# Altium schematic symbol library WE-OLTI.SchLib: 30 symbols
Pins are listed as number, name and electrical type; pins without a type are passive.

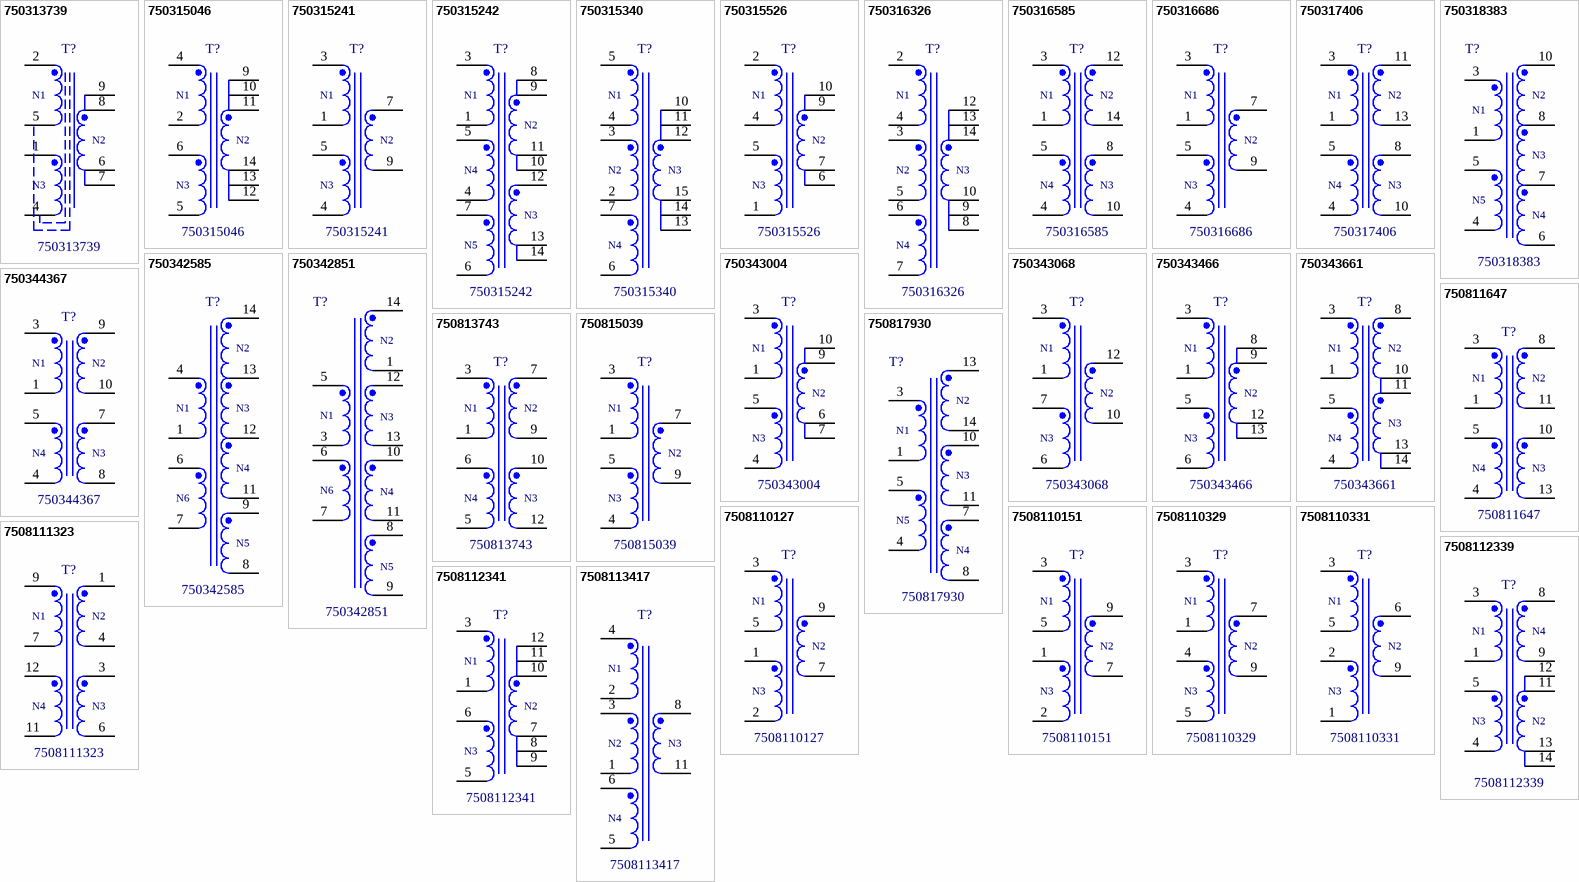
[diagram p0: symbols 750313739 to 7508113417]

## 750313739
designator T?
WE-OLTI Offline Flyback Transformer, EE16/8/5, Ui = 85~265V (AC), Uo = 5V / 1.2A, 1100μH; Manufacturer: Wurth Elektronik; Insulation Test Voltage: 4500V (AC); Switching Frequency: 115kHz; Turns Ratio: 16.5:1:3.5; Manufacturer Part Number: 750313739; Category: Transformers For AC-DC Converter; Match Code: WE-OLTI; ComponentLink1Description: Website Link; ComponentLink1URL: https://www.we-online.com/redexpert/article/750313739?ad; ComponentLink2Description: Datasheet Link; ComponentLink2URL: https://www.we-online.com/redexpert/spec/750313739?ad; Mount: Through Hole; Min Operating Temperature: -40°C; Max Operating Temperature: 125°C; Case/Size Code: EE16/8/5; Length: 24.38mm; Width: 20.32mm; Height: 16mm; Inductance: 1100μH; Input Voltage: 85~265V (AC); Output Current 1: 1.2A; Output Voltage 1: 5V
footprint EE16/8/5_750313739
pins: 1, 2, 4, 5, 6, 7, 8, 9
text: N1; N2; N3

## 750315046
designator T?
WE-OLTI Offline Flyback Transformer, EE25/13/7, Ui = 141~403V (AC), Uo = 24V / 2.1A, 1000μH; Manufacturer: Wurth Elektronik; Insulation Test Voltage: 3000V (AC); Switching Frequency: 60kHz; Turns Ratio: 8.67:1:1; Manufacturer Part Number: 750315046; Category: Transformers For AC-DC Converter; Match Code: WE-OLTI; ComponentLink1Description: Website Link; ComponentLink1URL: https://www.we-online.com/redexpert/article/750315046?ad; ComponentLink2Description: Datasheet Link; ComponentLink2URL: https://www.we-online.com/redexpert/spec/750315046?ad; Mount: Through Hole; Min Operating Temperature: -40°C; Max Operating Temperature: 125°C; Case/Size Code: EE25/13/7; Length: 32.25mm; Width: 27.05mm; Height: 22.86mm; Inductance: 1000μH; Input Voltage: 141~403V (AC); Output Current 1: 2.1A; Output Voltage 1: 24V
footprint EE25/13/7_750315046
pins: 2, 4, 5, 6, 9, 10, 11, 12, 13, 14
text: N1; N2; N3

## 750315241
designator T?
WE-OLTI Offline Flyback Transformer, EE20/10/6, Ui = 142~284V (AC), Uo = 36V / 1A, 1100μH; Manufacturer: Wurth Elektronik; Insulation Test Voltage: 3000V (AC); Switching Frequency: 45kHz; Turns Ratio: 4:1:0.5; Manufacturer Part Number: 750315241; Category: Transformers For AC-DC Converter; Match Code: WE-OLTI; ComponentLink1Description: Website Link; ComponentLink1URL: https://www.we-online.com/redexpert/article/750315241?ad; ComponentLink2Description: Datasheet Link; ComponentLink2URL: https://www.we-online.com/redexpert/spec/750315241?ad; Mount: Through Hole; Min Operating Temperature: -40°C; Max Operating Temperature: 125°C; Case/Size Code: EE20/10/6; Length: 25mm; Width: 22.2mm; Height: 16mm; Inductance: 1100μH; Input Voltage: 142~284V (AC); Output Current 1: 1A; Output Voltage 1: 36V
footprint EE20/10/6_750315241
pins: 1, 3, 4, 5, 7, 9
text: N1; N2; N3

## 750315242
designator T?
WE-OLTI Offline Flyback Transformer, EE25/13/7, Ui = 141~283V (AC), Uo1 = 12V / 1.8A, Uo2 = 12V / 1.8A, 600μH; Manufacturer: Wurth Elektronik; Insulation Test Voltage: 3000V (AC); Switching Frequency: 45kHz; Turns Ratio: 12:1:1:1.67:1.33; Manufacturer Part Number: 750315242; Category: Transformers For AC-DC Converter; Match Code: WE-OLTI; ComponentLink1Description: Website Link; ComponentLink1URL: https://www.we-online.com/redexpert/article/750315242?ad; ComponentLink2Description: Datasheet Link; ComponentLink2URL: https://www.we-online.com/redexpert/spec/750315242?ad; Mount: Through Hole; Min Operating Temperature: -40°C; Max Operating Temperature: 125°C; Case/Size Code: EE25/13/7; Length: 32.25mm; Width: 27.05mm; Height: 22.86mm; Inductance: 600μH; Input Voltage: 141~283V (AC); Output Current 1: 1.8A; Output Current 2: 1.8A; Output Voltage 1: 12V; Output Voltage 2: 12V
footprint EE25/13/7_750315242
pins: 1, 3, 4, 5, 6, 7, 8, 9, 10, 11, 12, 13, 14
text: N1; N2; N4; N3; N5

## 750315340
designator T?
WE-OLTI Offline Flyback Transformer, ETD39, Ui = 200~265V (AC), Uo = 24V / 10A, 200μH; Manufacturer: Wurth Elektronik; Insulation Test Voltage: 3000V (AC); Switching Frequency: 60kHz; Turns Ratio: 4.5:1:0.5; Manufacturer Part Number: 750315340; Category: Transformers For AC-DC Converter; Match Code: WE-OLTI; ComponentLink1Description: Website Link; ComponentLink1URL: https://www.we-online.com/redexpert/article/750315340?ad; ComponentLink2Description: Datasheet Link; ComponentLink2URL: https://www.we-online.com/redexpert/spec/750315340?ad; Mount: Through Hole; Min Operating Temperature: -40°C; Max Operating Temperature: 125°C; Case/Size Code: ETD39; Length: 49mm; Width: 41.9mm; Height: 31.75mm; Inductance: 200μH; Input Voltage: 200~265V (AC); Output Current 1: 10A; Output Voltage 1: 24V
footprint ETD39_750315340
pins: 2, 3, 4, 5, 6, 7, 10, 11, 12, 13, 14, 15
text: N1; N2; N3; N4

## 750315526
designator T?
WE-OLTI Offline Flyback Transformer, EE16/7/5, Ui = 85~265V (AC), Uo = 5V / 2A, 435μH; Manufacturer: Wurth Elektronik; Insulation Test Voltage: 3900V (AC); Switching Frequency: 100kHz; Turns Ratio: 13.2:1:3.8; Manufacturer Part Number: 750315526; Category: Transformers For AC-DC Converter; Match Code: WE-OLTI; ComponentLink1Description: Website Link; ComponentLink1URL: https://www.we-online.com/redexpert/article/750315526?ad; ComponentLink2Description: Datasheet Link; ComponentLink2URL: https://www.we-online.com/redexpert/spec/750315526?ad; Mount: Through Hole; Min Operating Temperature: -40°C; Max Operating Temperature: 125°C; Case/Size Code: EE16/7/5; Length: 18.8mm; Width: 17.5mm; Height: 13.8mm; Inductance: 435μH; Input Voltage: 85~265V (AC); Output Current 1: 2A; Output Voltage 1: 5V
footprint EE16/7/5_750315526
pins: 1, 2, 4, 5, 6, 7, 9, 10
text: N1; N2; N3

## 750316326
designator T?
WE-OLTI Offline Flyback Transformer, ERL35, Ui = 85~265V (AC), Uo = 27V / 6A, 250μH; Manufacturer: Wurth Elektronik; Insulation Test Voltage: 3600V (AC); Switching Frequency: 120kHz; Turns Ratio: 4:1:0.5; Manufacturer Part Number: 750316326; Category: Transformers For AC-DC Converter; Match Code: WE-OLTI; ComponentLink1Description: Website Link; ComponentLink1URL: https://www.we-online.com/redexpert/article/750316326?ad; ComponentLink2Description: Datasheet Link; ComponentLink2URL: https://www.we-online.com/redexpert/spec/750316326?ad; Mount: Through Hole; Min Operating Temperature: -40°C; Max Operating Temperature: 125°C; Case/Size Code: ERL35; Length: 44mm; Width: 36.5mm; Height: 28.5mm; Inductance: 250μH; Input Voltage: 85~265V (AC); Output Current 1: 6A; Output Voltage 1: 27V
footprint ERL35_750316326
pins: 2, 3, 4, 5, 6, 7, 8, 9, 10, 12, 13, 14
text: N1; N2; N3; N4

## 750316585
designator T?
WE-OLTI Offline Flyback Transformer, EE20/10/6, Ui = 177~473V (AC), Uo1 = 12V / 1.5A, Uo2 = 5V / 2A, 600μH; Manufacturer: Wurth Elektronik; Insulation Test Voltage: 4000V (AC); Switching Frequency: 30kHz; Turns Ratio: 5.81:3:2.18:1:5.81; Manufacturer Part Number: 750316585; Category: Transformers For AC-DC Converter; Match Code: WE-OLTI; ComponentLink1Description: Website Link; ComponentLink1URL: https://www.we-online.com/redexpert/article/750316585?ad; ComponentLink2Description: Datasheet Link; ComponentLink2URL: https://www.we-online.com/redexpert/spec/750316585?ad; Mount: Through Hole; Min Operating Temperature: -40°C; Max Operating Temperature: 125°C; Case/Size Code: EE20/10/6; Length: 25mm; Width: 22.2mm; Height: 16mm; Inductance: 600μH; Input Voltage: 177~473V (AC); Output Current 1: 1.5A; Output Current 2: 2A; Output Voltage 1: 12V; Output Voltage 2: 5V
footprint EE20/10/6_750316585
pins: 1, 3, 4, 5, 8, 10, 12, 14
text: N1; N2; N4; N3

## 750316686
designator T?
WE-OLTI Offline Flyback Transformer, EE16/8/5, Ui = 85~265V (AC), Uo = 12V / 1A, 500μH; Manufacturer: Wurth Elektronik; Insulation Test Voltage: 3000V (AC); Switching Frequency: 70kHz; Turns Ratio: 6:1:1; Manufacturer Part Number: 750316686; Category: Transformers For AC-DC Converter; Match Code: WE-OLTI; ComponentLink1Description: Website Link; ComponentLink1URL: https://www.we-online.com/redexpert/article/750316686?ad; ComponentLink2Description: Datasheet Link; ComponentLink2URL: https://www.we-online.com/redexpert/spec/750316686?ad; Mount: Through Hole; Min Operating Temperature: -40°C; Max Operating Temperature: 125°C; Case/Size Code: EE16/8/5; Length: 24.38mm; Width: 20.32mm; Height: 16mm; Inductance: 500μH; Input Voltage: 85~265V (AC); Output Current 1: 1A; Output Voltage 1: 12V
footprint EE16/8/5_750316686
pins: 1, 3, 4, 5, 7, 9
text: N1; N2; N3

## 750317406
designator T?
WE-OLTI Offline Flyback Transformer, EE20/10/6, Ui = 85~400V (AC), Uo1 = 12V / 1.1A, Uo2 = 4V / 0.01A, 600μH; Manufacturer: Wurth Elektronik; Insulation Test Voltage: 4800V (AC); Switching Frequency: 100kHz; Turns Ratio: 21:3:1:6; Manufacturer Part Number: 750317406; Category: Transformers For AC-DC Converter; Match Code: WE-OLTI; ComponentLink1Description: Website Link; ComponentLink1URL: https://www.we-online.com/redexpert/article/750317406?ad; ComponentLink2Description: Datasheet Link; ComponentLink2URL: https://www.we-online.com/redexpert/spec/750317406?ad; Mount: Through Hole; Min Operating Temperature: -40°C; Max Operating Temperature: 125°C; Case/Size Code: EE20/10/6; Length: 25mm; Width: 21.5mm; Height: 16mm; Inductance: 600μH; Input Voltage: 85~400V (AC); Output Current 1: 1.1A; Output Current 2: 0.01A; Output Voltage 1: 12V; Output Voltage 2: 4V
footprint EE20/10/6_750317406
pins: 1, 3, 4, 5, 8, 10, 11, 13
text: N1; N2; N4; N3

## 750318383
designator T?
WE-OLTI Offline Flyback Transformer, EFD20, Ui = 85~265V (AC), Uo1 = 12V / 0.3A, Uo2 = 7V / 2A, Uo3 = -15V / 0.3A, 680μH; Manufacturer: Wurth Elektronik; Insulation Test Voltage: 3750V (AC); Switching Frequency: 66kHz; Turns Ratio: 29.33:1:1.67:3:3; Manufacturer Part Number: 750318383; Category: Transformers For AC-DC Converter; Match Code: WE-OLTI; ComponentLink1Description: Website Link; ComponentLink1URL: https://www.we-online.com/redexpert/article/750318383?ad; ComponentLink2Description: Datasheet Link; ComponentLink2URL: https://www.we-online.com/redexpert/spec/750318383?ad; Mount: Through Hole; Min Operating Temperature: -40°C; Max Operating Temperature: 125°C; Case/Size Code: EFD20; Length: 29mm; Width: 21.5mm; Height: 12.45mm; Inductance: 680μH; Input Voltage: 85~265V (AC); Output Current 1: 0.3A; Output Current 2: 2A; Output Current 3: 0.3A; Output Voltage 1: 12V; Output Voltage 2: 7V; Output Voltage 3: -15V
footprint EFD20_750318383
pins: 1, 3, 4, 5, 6, 7, 8, 10
text: N2; N1; N3; N5; N4

## 750342585
designator T?
WE-OLTI Offline Flyback Transformer, ETD29, Ui = 400~690V (AC), Uo1 = 24V / 2A, Uo2 = 16V / 0.14A, Uo3 = 16V / 0.14A, 2500μH; Manufacturer: Wurth Elektronik; Insulation Test Voltage: 3800V (AC); Switching Frequency: 68kHz; Turns Ratio: 35.5:1:2:2:0.75:2; Manufacturer Part Number: 750342585; Category: Transformers For AC-DC Converter; Match Code: WE-OLTI; ComponentLink1Description: Website Link; ComponentLink1URL: https://www.we-online.com/redexpert/article/750342585?ad; ComponentLink2Description: Datasheet Link; ComponentLink2URL: https://www.we-online.com/redexpert/spec/750342585?ad; Mount: Through Hole; Min Operating Temperature: -40°C; Max Operating Temperature: 125°C; Case/Size Code: ETD29; Length: 35.56mm; Width: 24.38mm; Height: 44.2mm; Inductance: 2500μH; Input Voltage: 400~690V (AC); Output Current 1: 2A; Output Current 2: 0.14A; Output Current 3: 0.14A; Output Voltage 1: 24V; Output Voltage 2: 16V; Output Voltage 3: 16V
footprint ETD29_750342585
pins: 1, 4, 6, 7, 8, 9, 11, 12, 13, 14
text: N2; N1; N3; N4; N6; N5

## 750342851
designator T?
WE-OLTI Offline Flyback Transformer, EE25/13/7, Ui = 43~318V (AC), Uo1 = 24V / 1A, Uo2 = 15V / 0.065A, Uo3 = 15V / 0.065A, 150μH; Manufacturer: Wurth Elektronik; Insulation Test Voltage: 1250V (AC); Switching Frequency: 75kHz; Turns Ratio: 3.75:1.5:1:1:1:1; Manufacturer Part Number: 750342851; Category: Transformers For AC-DC Converter; Match Code: WE-OLTI; ComponentLink1Description: Website Link; ComponentLink1URL: https://www.we-online.com/redexpert/article/750342851?ad; ComponentLink2Description: Datasheet Link; ComponentLink2URL: https://www.we-online.com/redexpert/spec/750342851?ad; Mount: Through Hole; Min Operating Temperature: -40°C; Max Operating Temperature: 125°C; Case/Size Code: EE25/13/7; Length: 32.25mm; Width: 27.05mm; Height: 22.86mm; Inductance: 150μH; Input Voltage: 43~318V (AC); Output Current 1: 1A; Output Current 2: 0.065A; Output Current 3: 0.065A; Output Voltage 1: 24V; Output Voltage 2: 15V; Output Voltage 3: 15V
footprint EE25/13/7_750342851
pins: 1, 3, 5, 6, 7, 8, 9, 10, 11, 12, 13, 14
text: N2; N1; N3; N6; N4; N5

## 750343004
designator T?
WE-OLTI Offline Flyback Transformer, ER28/14, Ui = 106~286V (AC), Uo = 24V / 3.85A, 160μH; Manufacturer: Wurth Elektronik; Insulation Test Voltage: 3750V (AC); Switching Frequency: 65kHz; Turns Ratio: 4:1:0.78; Manufacturer Part Number: 750343004; Category: Transformers For AC-DC Converter; Match Code: WE-OLTI; ComponentLink1Description: Website Link; ComponentLink1URL: https://www.we-online.com/redexpert/article/750343004?ad; ComponentLink2Description: Datasheet Link; ComponentLink2URL: https://www.we-online.com/redexpert/spec/750343004?ad; Mount: Through Hole; Min Operating Temperature: -40°C; Max Operating Temperature: 125°C; Case/Size Code: ER28/14; Length: 30.5mm; Width: 24mm; Height: 33mm; Inductance: 160μH; Input Voltage: 106~286V (AC); Output Current 1: 3.85A; Output Voltage 1: 24V
footprint ER28/14_750343004
pins: 1, 3, 4, 5, 6, 7, 9, 10
text: N1; N2; N3

## 750343068
designator T?
WE-OLTI Offline Flyback Transformer, PQ2625, Ui = 60~283V (AC), Uo = 24V / 2.5A, 230μH; Manufacturer: Wurth Elektronik; Insulation Test Voltage: 3000V (AC); Switching Frequency: 65kHz; Turns Ratio: 3.88:1:0.83; Manufacturer Part Number: 750343068; Category: Transformers For AC-DC Converter; Match Code: WE-OLTI; ComponentLink1Description: Website Link; ComponentLink1URL: https://www.we-online.com/redexpert/article/750343068?ad; ComponentLink2Description: Datasheet Link; ComponentLink2URL: https://www.we-online.com/redexpert/spec/750343068?ad; Mount: Through Hole; Min Operating Temperature: -40°C; Max Operating Temperature: 125°C; Case/Size Code: PQ2625; Length: 30.35mm; Width: 29.2mm; Height: 29.3mm; Inductance: 230μH; Input Voltage: 60~283V (AC); Output Current 1: 2.5A; Output Voltage 1: 24V
footprint PQ2625_750343068
pins: 1, 3, 6, 7, 10, 12
text: N1; N2; N3

## 750343466
designator T?
WE-OLTI Offline Flyback Transformer, EE20/10/6, Ui = 60~282V (AC), Uo = 24V / 1.5A, 280μH; Manufacturer: Wurth Elektronik; Insulation Test Voltage: 3000V (AC); Switching Frequency: 100kHz; Turns Ratio: 4.29 : 1 : 0.72; Manufacturer Part Number: 750343466; Category: Transformers For AC-DC Converter; Match Code: WE-OLTI; ComponentLink1Description: Website Link; ComponentLink1URL: https://www.we-online.com/redexpert/article/750343466?ad; ComponentLink2Description: Datasheet Link; ComponentLink2URL: https://www.we-online.com/redexpert/spec/750343466?ad; Mount: Through Hole; Min Operating Temperature: -40°C; Max Operating Temperature: 125°C; Case/Size Code: EE20/10/6; Length: 25mm; Width: 22.2mm; Height: 16.5mm; Inductance: 280μH; Input Voltage: 60~282V (AC); Output Current 1: 1.5A; Output Voltage 1: 24V
footprint EE20/10/6_750343466
pins: 1, 3, 5, 6, 8, 9, 12, 13
text: N1; N2; N3

## 750343661
designator T?
WE-OLTI Offline Flyback Transformer, EE20/10/6, Ui = 71~301V (AC), Uo1 = 15V / 0.25A, Uo2 = 5V / 3A, 500μH; Manufacturer: Wurth Elektronik; Insulation Test Voltage: 3000V (AC); Switching Frequency: 85kHz; Turns Ratio: 8:1.75:1:2.75; Manufacturer Part Number: 750343661; Category: Transformers For AC-DC Converter; Match Code: WE-OLTI; ComponentLink1Description: Website Link; ComponentLink1URL: https://www.we-online.com/redexpert/article/750343661?ad; ComponentLink2Description: Datasheet Link; ComponentLink2URL: https://www.we-online.com/redexpert/spec/750343661?ad; Mount: Through Hole; Min Operating Temperature: -40°C; Max Operating Temperature: 125°C; Case/Size Code: EE20/10/6; Length: 25mm; Width: 22.2mm; Height: 16mm; Inductance: 500μH; Input Voltage: 71~301V (AC); Output Current 1: 0.25A; Output Current 2: 3A; Output Voltage 1: 15V; Output Voltage 2: 5V
footprint EE20/10/6_750343661
pins: 1, 3, 4, 5, 8, 10, 11, 13, 14
text: N1; N2; N3; N4

## 750344367
designator T?
WE-OLTI Offline Flyback Transformer, EE16/7/5, Ui = 269~282V (AC), Uo1 = 18V / 0.1A, Uo2 = 6V / 0.9A, 1600μH; Manufacturer: Wurth Elektronik; Insulation Test Voltage: 3000V (AC); Switching Frequency: 110kHz; Turns Ratio: 16:2:1:2; Manufacturer Part Number: 750344367; Category: Transformers For AC-DC Converter; Match Code: WE-OLTI; ComponentLink1Description: Website Link; ComponentLink1URL: https://www.we-online.com/redexpert/article/750344367?ad; ComponentLink2Description: Datasheet Link; ComponentLink2URL: https://www.we-online.com/redexpert/spec/750344367?ad; Mount: Through Hole; Min Operating Temperature: -40°C; Max Operating Temperature: 125°C; Case/Size Code: EE16/7/5; Length: 20mm; Width: 17.5mm; Height: 14mm; Inductance: 1600μH; Input Voltage: 269~282V (AC); Output Current 1: 0.1A; Output Current 2: 0.9A; Output Voltage 1: 18V; Output Voltage 2: 6V
footprint EE16/7/5_750344367
pins: 1, 3, 4, 5, 7, 8, 9, 10
text: N1; N2; N4; N3

## 750811647
designator T?
WE-OLTI Offline Flyback Transformer, EE16/8/5, Ui = 85~265V (AC), Uo1 = 17.4V / 1A, Uo2 = 6.6V / 1A, 250μH; Manufacturer: Wurth Elektronik; Insulation Test Voltage: 3500V (AC); Switching Frequency: 100kHz; Turns Ratio: 10:1:2.5:2.75; Manufacturer Part Number: 750811647; Category: Transformers For AC-DC Converter; Match Code: WE-OLTI; ComponentLink1Description: Website Link; ComponentLink1URL: https://www.we-online.com/redexpert/article/750811647?ad; ComponentLink2Description: Datasheet Link; ComponentLink2URL: https://www.we-online.com/redexpert/spec/750811647?ad; Mount: Through Hole; Min Operating Temperature: -40°C; Max Operating Temperature: 125°C; Case/Size Code: EE16/8/5; Length: 26mm; Width: 22.2mm; Height: 16mm; Inductance: 250μH; Input Voltage: 85~265V (AC); Output Current 1: 1A; Output Current 2: 1A; Output Voltage 1: 17.4V; Output Voltage 2: 6.6V
footprint EE16/8/5_750811647
pins: 1, 3, 4, 5, 8, 10, 11, 13
text: N1; N2; N4; N3

## 750813743
designator T?
WE-OLTI Offline Flyback Transformer, ER28/14, Ui = 90~144V (AC), Uo1 = 12V / 4.05A, Uo2 = 12V / 4.05A, 180μH; Manufacturer: Wurth Elektronik; Insulation Test Voltage: 3750V (AC); Switching Frequency: 60kHz; Turns Ratio: 10:1:1:1; Manufacturer Part Number: 750813743; Category: Transformers For AC-DC Converter; Match Code: WE-OLTI; ComponentLink1Description: Website Link; ComponentLink1URL: https://www.we-online.com/redexpert/article/750813743?ad; ComponentLink2Description: Datasheet Link; ComponentLink2URL: https://www.we-online.com/redexpert/spec/750813743?ad; Mount: Through Hole; Min Operating Temperature: -40°C; Max Operating Temperature: 125°C; Case/Size Code: ER28/14; Length: 31mm; Width: 31mm; Height: 25mm; Inductance: 180μH; Input Voltage: 90~144V (AC); Output Current 1: 4.05A; Output Current 2: 4.05A; Output Voltage 1: 12V; Output Voltage 2: 12V
footprint ER28/14_750813743
pins: 1, 3, 5, 6, 7, 9, 10, 12
text: N1; N2; N4; N3

## 750815039
designator T?
WE-OLTI Offline Flyback Transformer, EE16/7/5, Ui = 184~265V (AC), Uo = 12V / 0.3A, 6600μH; Manufacturer: Wurth Elektronik; Insulation Test Voltage: 4000V (AC); Switching Frequency: 40~130kHz; Turns Ratio: 18:1:1; Manufacturer Part Number: 750815039; Category: Transformers For AC-DC Converter; Match Code: WE-OLTI; ComponentLink1Description: Website Link; ComponentLink1URL: https://www.we-online.com/redexpert/article/750815039?ad; ComponentLink2Description: Datasheet Link; ComponentLink2URL: https://www.we-online.com/redexpert/spec/750815039?ad; Mount: Through Hole; Min Operating Temperature: -40°C; Max Operating Temperature: 125°C; Case/Size Code: EE16/7/5; Length: 18.8mm; Width: 17.5mm; Height: 14.2mm; Inductance: 6600μH; Input Voltage: 184~265V (AC); Output Current 1: 0.3A; Output Voltage 1: 12V
footprint EE16/7/5_750815039
pins: 1, 3, 4, 5, 7, 9
text: N1; N2; N3

## 750817930
designator T?
WE-OLTI Offline Flyback Transformer, EE20/10/6, Ui = 71~481V (AC), Uo1 = 12V / 0.7A, Uo2 = 12V / 0.7A, Uo3 = 12V / 0.7A, 350μH; Manufacturer: Wurth Elektronik; Insulation Test Voltage: 3000V (AC); Switching Frequency: 100kHz; Turns Ratio: 7:1:1:1:1.5; Manufacturer Part Number: 750817930; Category: Transformers For AC-DC Converter; Match Code: WE-OLTI; ComponentLink1Description: Website Link; ComponentLink1URL: https://www.we-online.com/redexpert/article/750817930?ad; ComponentLink2Description: Datasheet Link; ComponentLink2URL: https://www.we-online.com/redexpert/spec/750817930?ad; Mount: Through Hole; Min Operating Temperature: -40°C; Max Operating Temperature: 125°C; Case/Size Code: EE20/10/6; Length: 25mm; Width: 22.2mm; Height: 16mm; Inductance: 350μH; Input Voltage: 71~481V (AC); Output Current 1: 0.7A; Output Current 2: 0.7A; Output Current 3: 0.7A; Output Voltage 1: 12V; Output Voltage 2: 12V; Output Voltage 3: 12V
footprint EE20/10/6_750817930
pins: 1, 3, 4, 5, 7, 8, 10, 11, 13, 14
text: N2; N1; N3; N5; N4

## 7508110127
designator T?
WE-OLTI Offline Flyback Transformer, EP13, Ui = 85~265V (AC), Uo = 5V / 1A, 1050μH; Manufacturer: Wurth Elektronik; Insulation Test Voltage: 4000V (AC); Switching Frequency: 120kHz; Turns Ratio: 14.16:1:3.17; Manufacturer Part Number: 7508110127; Category: Transformers For AC-DC Converter; Match Code: WE-OLTI; ComponentLink1Description: Website Link; ComponentLink1URL: https://www.we-online.com/redexpert/article/7508110127?ad; ComponentLink2Description: Datasheet Link; ComponentLink2URL: https://www.we-online.com/redexpert/spec/7508110127?ad; Mount: Through Hole; Min Operating Temperature: -40°C; Max Operating Temperature: 125°C; Case/Size Code: EP13; Length: 14.22mm; Width: 14.22mm; Height: 12.7mm; Inductance: 1050μH; Input Voltage: 85~265V (AC); Output Current 1: 1A; Output Voltage 1: 5V
footprint EP13_7508110127
pins: 1, 2, 3, 5, 7, 9
text: N1; N2; N3

## 7508110151
designator T?
WE-OLTI Offline Flyback Transformer, EP13, Ui = 85~265V (AC), Uo = 5V / 1A, 1500μH; Manufacturer: Wurth Elektronik; Insulation Test Voltage: 4000V (AC); Switching Frequency: 70kHz; Turns Ratio: 15.42:1:3.14; Manufacturer Part Number: 7508110151; Category: Transformers For AC-DC Converter; Match Code: WE-OLTI; ComponentLink1Description: Website Link; ComponentLink1URL: https://www.we-online.com/redexpert/article/7508110151?ad; ComponentLink2Description: Datasheet Link; ComponentLink2URL: https://www.we-online.com/redexpert/spec/7508110151?ad; Mount: Through Hole; Min Operating Temperature: -40°C; Max Operating Temperature: 125°C; Case/Size Code: EP13; Length: 14.22mm; Width: 14.22mm; Height: 12.7mm; Inductance: 1500μH; Input Voltage: 85~265V (AC); Output Current 1: 1A; Output Voltage 1: 5V
footprint EP13_7508110151
pins: 1, 2, 3, 5, 7, 9
text: N1; N2; N3

## 7508110329
designator T?
WE-OLTI Offline Flyback Transformer, EE16/7/5, Ui = 70~265V (AC), Uo = 15V / 0.34A, 700μH; Manufacturer: Wurth Elektronik; Insulation Test Voltage: 4000V (AC); Switching Frequency: 130kHz; Turns Ratio: 6.6:1:1; Manufacturer Part Number: 7508110329; Category: Transformers For AC-DC Converter; Match Code: WE-OLTI; ComponentLink1Description: Website Link; ComponentLink1URL: https://www.we-online.com/redexpert/article/7508110329?ad; ComponentLink2Description: Datasheet Link; ComponentLink2URL: https://www.we-online.com/redexpert/spec/7508110329?ad; Mount: Through Hole; Min Operating Temperature: -40°C; Max Operating Temperature: 125°C; Case/Size Code: EE16/7/5; Length: 18.8mm; Width: 17.5mm; Height: 17.5mm; Inductance: 700μH; Input Voltage: 70~265V (AC); Output Current 1: 0.34A; Output Voltage 1: 15V
footprint EE16/7/5_7508110329
pins: 1, 3, 4, 5, 7, 9
text: N1; N2; N3

## 7508110331
designator T?
WE-OLTI Offline Flyback Transformer, EE13/7/4, Ui = 85~265V (AC), Uo = 15V / 0.25A, 500μH; Manufacturer: Wurth Elektronik; Insulation Test Voltage: 3000V (AC); Switching Frequency: 130kHz; Turns Ratio: 3.25:1:1; Manufacturer Part Number: 7508110331; Category: Transformers For AC-DC Converter; Match Code: WE-OLTI; ComponentLink1Description: Website Link; ComponentLink1URL: https://www.we-online.com/redexpert/article/7508110331?ad; ComponentLink2Description: Datasheet Link; ComponentLink2URL: https://www.we-online.com/redexpert/spec/7508110331?ad; Mount: Through Hole; Min Operating Temperature: -40°C; Max Operating Temperature: 125°C; Case/Size Code: EE13/7/4; Length: 20.45mm; Width: 13.72mm; Height: 10.54mm; Inductance: 500μH; Input Voltage: 85~265V (AC); Output Current 1: 0.25A; Output Voltage 1: 15V
footprint EE13/7/4_7508110331
pins: 1, 2, 3, 5, 6, 9
text: N1; N2; N3

## 7508111323
designator T?
WE-OLTI Offline Flyback Transformer, EE16/8/5, Ui = 85~265V (AC), Uo = 12V / 1A, 2000μH; Manufacturer: Wurth Elektronik; Insulation Test Voltage: 625V (AC); Switching Frequency: 50~102kHz; Turns Ratio: 8:1:1:1; Manufacturer Part Number: 7508111323; Category: Transformers For AC-DC Converter; Match Code: WE-OLTI; ComponentLink1Description: Website Link; ComponentLink1URL: https://www.we-online.com/redexpert/article/7508111323?ad; ComponentLink2Description: Datasheet Link; ComponentLink2URL: https://www.we-online.com/redexpert/spec/7508111323?ad; Mount: Surface Mount; Min Operating Temperature: -40°C; Max Operating Temperature: 125°C; Case/Size Code: EE16/8/5; Length: 26.9mm; Width: 17.78mm; Height: 13.8mm; Inductance: 2000μH; Input Voltage: 85~265V (AC); Output Current 1: 1A; Output Voltage 1: 12V
footprint EE16/8/5_7508111323
pins: 1, 3, 4, 6, 7, 9, 11, 12
text: N1; N2; N4; N3

## 7508112339
designator T?
WE-OLTI Offline Flyback Transformer, EE20/10/6, Ui = 85~265V (AC), Uo = 12V / 3A, 220μH; Manufacturer: Wurth Elektronik; Insulation Test Voltage: 4500V (AC); Switching Frequency: 100kHz; Turns Ratio: 7:1:1.5:0.5; Manufacturer Part Number: 7508112339; Category: Transformers For AC-DC Converter; Match Code: WE-OLTI; ComponentLink1Description: Website Link; ComponentLink1URL: https://www.we-online.com/redexpert/article/7508112339?ad; ComponentLink2Description: Datasheet Link; ComponentLink2URL: https://www.we-online.com/redexpert/spec/7508112339?ad; Mount: Surface Mount; Min Operating Temperature: -40°C; Max Operating Temperature: 125°C; Case/Size Code: EE20/10/6; Length: 25mm; Width: 22.2mm; Height: 16.5mm; Inductance: 220μH; Input Voltage: 85~265V (AC); Output Current 1: 3A; Output Voltage 1: 12V
footprint EE20/10/6_7508112339
pins: 1, 3, 4, 5, 8, 9, 11, 12, 13, 14
text: N1; N4; N3; N2

## 7508112341
designator T?
WE-OLTI Offline Flyback Transformer, EFD25, Ui = 85~265V (AC), Uo = 12V / 3A, 380μH; Manufacturer: Wurth Elektronik; Insulation Test Voltage: 4500V (AC); Switching Frequency: 60~120kHz; Turns Ratio: 7:1:1; Manufacturer Part Number: 7508112341; Category: Transformers For AC-DC Converter; Match Code: WE-OLTI; ComponentLink1Description: Website Link; ComponentLink1URL: https://www.we-online.com/redexpert/article/7508112341?ad; ComponentLink2Description: Datasheet Link; ComponentLink2URL: https://www.we-online.com/redexpert/spec/7508112341?ad; Mount: Through Hole; Min Operating Temperature: -40°C; Max Operating Temperature: 125°C; Case/Size Code: EFD25; Length: 33mm; Width: 26.3mm; Height: 14.76mm; Inductance: 380μH; Input Voltage: 85~265V (AC); Output Current 1: 3A; Output Voltage 1: 12V
footprint EFD25_7508112341
pins: 1, 3, 5, 6, 7, 8, 9, 10, 11, 12
text: N1; N2; N3

## 7508113417
designator T?
WE-OLTI Offline Flyback Transformer, ER28/17, Ui = 64~265V (AC), Uo = 19V / 3.85A, 140μH; Manufacturer: Wurth Elektronik; Insulation Test Voltage: 3000V (AC); Switching Frequency: 30-130kHz; Turns Ratio: 3.25:1:0.58; Manufacturer Part Number: 7508113417; Category: Transformers For AC-DC Converter; Match Code: WE-OLTI; ComponentLink1Description: Website Link; ComponentLink1URL: https://www.we-online.com/redexpert/article/7508113417?ad; ComponentLink2Description: Datasheet Link; ComponentLink2URL: https://www.we-online.com/redexpert/spec/7508113417?ad; Mount: Through Hole; Min Operating Temperature: -40°C; Max Operating Temperature: 125°C; Case/Size Code: ER28/17; Length: 39mm; Width: 32mm; Height: 36mm; Inductance: 140μH; Input Voltage: 64~265V (AC); Output Current 1: 3.85A; Output Voltage 1: 19V
footprint ER28/17_7508113417
pins: 1, 2, 3, 4, 5, 6, 8, 11
text: N1; N2; N3; N4